# Altium integrated library ON Semi MOSFETs.IntLib: 1097 symbols (part 22 of 26)
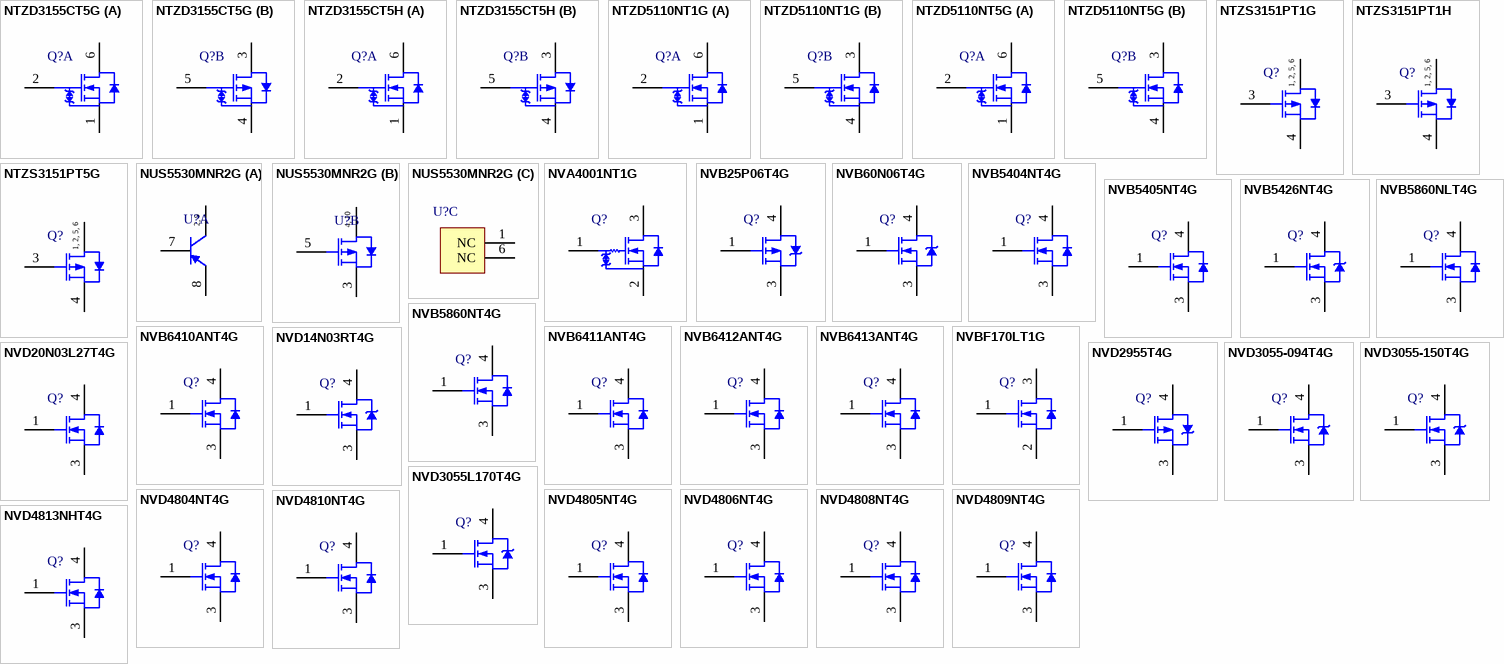
[diagram p52: symbols NTZD3155CT5G to NVD4813NHT4G]

## NVD4809NT4G
designator Q?
Power MOSFET, 30 V, 58 A, Single N-Channel, 3-Pin DPAK, Pb-Free, Tape and Reel; Manufacturer: On Semiconductor; PartNumber: NVD4809NT4G; Channel Polarity: N Channel; Ciss Typ (pF): 1456; Coss Typ (pF): 315; Crss Typ (pF): 200; ID Max (A): 58; Qrr Typ (nC): 9.2; V(BR)DSS Min (V): 30; VGS Max (V): 20; VGS(th) Max (V): 2.5; DatasheetVersion: Rev. 13; PackageVersion: Rev. B, 06/2010; PackageReference: DPAK-3-369AA-01; PackageDescription: 3-Pin Flange Mount, Body 6.54 x 6.095 mm, Pitch 2.29 mm; Configuration: Single; Package Type: DPAK-3, IPAK-3; Packing: Tape and Reel; RoHS: Pb-Free; Mounting Technology: Surface Mount; ComponentLink1Description: Manufacturer URL; ComponentLink1URL: http://www.onsemi.com/; ComponentLink2Description: Datasheet; ComponentLink2URL: http://www.onsemi.cn/pub_link/Collateral/NTD4809N-D.PDF; ComponentLink3Description: Package Specification; ComponentLink3URL: http://www.onsemi.cn/pub_link/Collateral/369AA.PDF
footprint ONSC-DPAK-3-369AA-01_V (DPAK, 3-Leads, Body 6.54x6.095mm, Pitch 2.29mm)
pins: 1 G, 3 S, 4 D

## NVD4810NT4G
designator Q?
Power MOSFET, 30 V, 54 A, Single N-Channel, 3-Pin DPAK, Pb-Free, Tape and Reel; Manufacturer: On Semiconductor; PartNumber: NVD4810NT4G; Channel Polarity: N Channel; Ciss Typ (pF): 1165; Coss Typ (pF): 284; Crss Typ (pF): 154; ID Max (A): 54; Qrr Typ (nC): 8.8; V(BR)DSS Min (V): 30; VGS Max (V): 20; VGS(th) Max (V): 2.5; DatasheetVersion: Rev. 10; PackageVersion: Rev. B, 06/2010; PackageReference: DPAK-3-369AA-01; PackageDescription: 3-Pin Flange Mount, Body 6.54 x 6.095 mm, Pitch 2.29 mm; Configuration: Single; Package Type: DPAK-3; Packing: Tape and Reel; RoHS: Pb-Free; Mounting Technology: Surface Mount; ComponentLink1Description: Manufacturer URL; ComponentLink1URL: http://www.onsemi.com/; ComponentLink2Description: Datasheet; ComponentLink2URL: http://www.onsemi.cn/pub_link/Collateral/NTD4810N-D.PDF; ComponentLink3Description: Package Specification; ComponentLink3URL: http://www.onsemi.cn/pub_link/Collateral/369AA.PDF
footprint ONSC-DPAK-3-369AA-01_V (DPAK, 3-Leads, Body 6.54x6.095mm, Pitch 2.29mm)
pins: 1 G, 3 S, 4 D

## NVD4813NHT4G
designator Q?
Power MOSFET, 30 V, 40 A, Single N-Channel, 3-Pin DPAK, Pb-Free, Tape and Reel; Manufacturer: On Semiconductor; PartNumber: NVD4813NHT4G; Channel Polarity: N Channel; Ciss Typ (pF): 940; Coss Typ (pF): 201; Crss Typ (pF): 115; ID Max (A): 40; Qrr Typ (nC): 7; V(BR)DSS Min (V): 30; VGS Max (V): 20; VGS(th) Max (V): 2.5; DatasheetVersion: Rev. 3; PackageVersion: Rev. B, 06/2010; PackageReference: DPAK-3-369AA-01; PackageDescription: 3-Pin Flange Mount, Body 6.54 x 6.095 mm, Pitch 2.29 mm; Configuration: Single; Package Type: DPAK-3; Packing: Tape and Reel; RoHS: Pb-Free; Mounting Technology: Surface Mount; ComponentLink1Description: Manufacturer URL; ComponentLink1URL: http://www.onsemi.com/; ComponentLink2Description: Datasheet; ComponentLink2URL: http://www.onsemi.cn/pub_link/Collateral/NTD4813NH-D.PDF; ComponentLink3Description: Package Specification; ComponentLink3URL: http://www.onsemi.cn/pub_link/Collateral/369AA.PDF
footprint ONSC-DPAK-3-369AA-01_V (DPAK, 3-Leads, Body 6.54x6.095mm, Pitch 2.29mm)
pins: 1 G, 3 S, 4 D

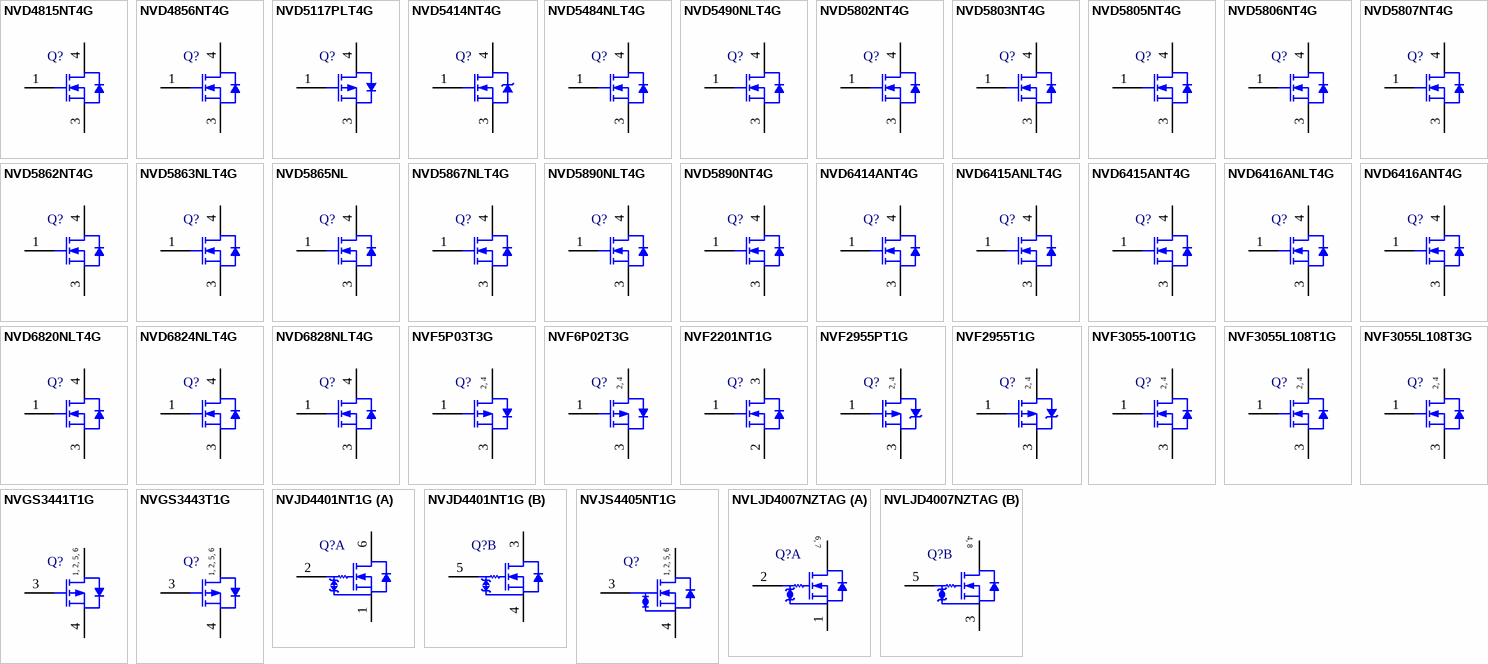
[diagram p26: symbols NVD4815NT4G to NVLJD4007NZTAG]

## NVD4815NT4G
designator Q?
Power MOSFET, 30 V, 35 A, Single N-Channel, 3-Pin DPAK, Pb-Free, Tape and Reel; Manufacturer: On Semiconductor; PartNumber: NVD4815NT4G; Channel Polarity: N Channel; Ciss Typ (pF): 770; Coss Typ (pF): 181; Crss Typ (pF): 108; ID Max (A): 35; Qrr Typ (nC): 5.5; V(BR)DSS Min (V): 30; VGS Max (V): 20; VGS(th) Max (V): 2.5; DatasheetVersion: Rev. 7; PackageVersion: Rev. B, 06/2010; PackageReference: DPAK-3-369AA-01; PackageDescription: 3-Pin Flange Mount, Body 6.54 x 6.095 mm, Pitch 2.29 mm; Configuration: Single; Package Type: DPAK-3, IPAK-3; Packing: Tape and Reel; RoHS: Pb-Free; Mounting Technology: Surface Mount; ComponentLink1Description: Manufacturer URL; ComponentLink1URL: http://www.onsemi.com/; ComponentLink2Description: Datasheet; ComponentLink2URL: http://www.onsemi.cn/pub_link/Collateral/NTD4815N-D.PDF; ComponentLink3Description: Package Specification; ComponentLink3URL: http://www.onsemi.cn/pub_link/Collateral/369AA.PDF
footprint ONSC-DPAK-3-369AA-01_V (DPAK, 3-Leads, Body 6.54x6.095mm, Pitch 2.29mm)
pins: 1 G, 3 S, 4 D

## NVD4856NT4G
designator Q?
Power MOSFET, 25 V, 89 A, Single N-Channel, 3-Pin DPAK, Pb-Free, Tape and Reel; Manufacturer: On Semiconductor; PartNumber: NVD4856NT4G; Channel Polarity: N Channel; Ciss Typ (pF): 2241; Coss Typ (pF): 567; Crss Typ (pF): 279; ID Max (A): 89; Qrr Typ (nC): 8; V(BR)DSS Min (V): 25; VGS Max (V): 20; VGS(th) Max (V): 2.5; DatasheetVersion: Rev. 2; PackageVersion: Rev. B, 06/2010; PackageReference: DPAK-3-369AA-01; PackageDescription: 3-Pin Flange Mount, Body 6.54 x 6.095 mm, Pitch 2.29 mm; Configuration: Single; Package Type: DPAK-3; Packing: Tape and Reel; RoHS: Pb-Free; Mounting Technology: Surface Mount; ComponentLink1Description: Manufacturer URL; ComponentLink1URL: http://www.onsemi.com/; ComponentLink2Description: Datasheet; ComponentLink2URL: http://www.onsemi.cn/pub_link/Collateral/NTD4856N-D.PDF; ComponentLink3Description: Package Specification; ComponentLink3URL: http://www.onsemi.cn/pub_link/Collateral/369AA.PDF
footprint ONSC-DPAK-3-369AA-01_V (DPAK, 3-Leads, Body 6.54x6.095mm, Pitch 2.29mm)
pins: 1 G, 3 S, 4 D

## NVD5117PLT4G
designator Q?
Power MOSFET, -60 V, -61 A, 16 mOhm, Single P-Channel, 3-Pin DPAK, Pb-Free, Tape and Reel; Manufacturer: On Semiconductor; PartNumber: NVD5117PLT4G; Channel Polarity: P Channel; Ciss Typ (pF): 4800; Coss Typ (pF): 480; Crss Typ (pF): 320; ID Max (A): 61; Qrr Typ (nC): 44; V(BR)DSS Min (V): 60; VGS Max (V): 20; VGS(th) Max (V): 2.5; DatasheetVersion: Rev. 0; PackageVersion: Rev. E, 02/2014; PackageReference: DPAK-3-369C-01; PackageDescription: 3-Pin Flange Mount, Body 6.54 x 6.095 mm, Pitch 2.29 mm; Supplier 1: Digi-Key; Supplier Part Number 1: NVD5117PLT4GOSTR-ND; Supplier 2: Digi-Key; Supplier Part Number 2: NVD5117PLT4GOSCT-ND; Supplier 3: Digi-Key; Supplier Part Number 3: NVD5117PLT4GOSDKR-ND; Supplier 4: Farnell; Supplier Part Number 4: 2317595; Supplier 5: Newark; Supplier Part Number 5: 85W3193; Supplier 6: Newark; Supplier Part Number 6: 76T6767; Supplier 7: Mouser; Supplier Part Number 7: 863-NVD5117PLT4G; Configuration: Single; Package Type: DPAK-3; Packing: Tape and Reel; RoHS: Pb-Free; Mounting Technology: Surface Mount; ComponentLink1Description: Manufacturer URL; ComponentLink1URL: http://www.onsemi.com/; ComponentLink2Description: Datasheet; ComponentLink2URL: http://www.onsemi.cn/pub_link/Collateral/NVD5117PL-D.PDF; ComponentLink3Description: Package Specification; ComponentLink3URL: http://www.onsemi.cn/pub_link/Collateral/369C.PDF
footprint ONSC-DPAK-3-369C-01_V (DPAK, 3-Leads, Body 6.54x6.095mm, Pitch 2.29mm)
pins: 1 G, 3 S, 4 D

## NVD5414NT4G
designator Q?
Power MOSFET, 24 A, 60 V Single N-Channel, 3-Pin DPAK, Pb-Free, Tape and Reel; Manufacturer: On Semiconductor; PartNumber: NVD5414NT4G; Channel Polarity: N Channel; Ciss Typ (pF): 800; Coss Typ (pF): 165; Crss Typ (pF): 75; ID Max (A): 24; PD Max (W): 55; Qrr Typ (nC): 76; V(BR)DSS Min (V): 60; VGS(th) Max (V): 4; DatasheetVersion: Rev. 1; PackageVersion: Rev. B, 06/2010; PackageReference: DPAK-3-369AA-01; PackageDescription: 3-Pin Flange Mount, Body 6.54 x 6.095 mm, Pitch 2.29 mm; Configuration: Single; Package Type: DPAK-3; Packing: Tape and Reel; RoHS: Pb-Free; Mounting Technology: Surface Mount; ComponentLink1Description: Manufacturer URL; ComponentLink1URL: http://www.onsemi.com/; ComponentLink2Description: Datasheet; ComponentLink2URL: http://www.onsemi.cn/pub_link/Collateral/NTD5414N-D.PDF; ComponentLink3Description: Package Specification; ComponentLink3URL: http://www.onsemi.cn/pub_link/Collateral/369AA.PDF
footprint ONSC-DPAK-3-369AA-01_V (DPAK, 3-Leads, Body 6.54x6.095mm, Pitch 2.29mm)
pins: 1 G, 3 S, 4 D

## NVD5484NLT4G
designator Q?
Power MOSFET, 60 V, 17 mOhm , 54 A, Single N-Channel Logic Level, 3-Pin DPAK, Pb-Free, Tape and Reel; Manufacturer: On Semiconductor; PartNumber: NVD5484NLT4G; Channel Polarity: N Channel; Ciss Typ (pF): 1410; Coss Typ (pF): 315; Crss Typ (pF): 135; ID Max (A): 54; Qrr Typ (nC): 118; V(BR)DSS Min (V): 60; VGS Max (V): 20; VGS(th) Max (V): 2.5; DatasheetVersion: Rev. 1; PackageVersion: Rev. B, 06/2010; PackageReference: DPAK-3-369AA-01; PackageDescription: 3-Pin Flange Mount, Body 6.54 x 6.095 mm, Pitch 2.29 mm; Supplier 1: Newark; Supplier Part Number 1: 72W2340; Supplier 2: Mouser; Supplier Part Number 2: 863-NVD5484NLT4G; Configuration: Single; Package Type: DPAK-3; Packing: Tape and Reel; RoHS: Pb-Free; Mounting Technology: Surface Mount; ComponentLink1Description: Manufacturer URL; ComponentLink1URL: http://www.onsemi.com/; ComponentLink2Description: Datasheet; ComponentLink2URL: http://www.onsemi.com/pub_link/Collateral/NVD5484NL-D.PDF; ComponentLink3Description: Package Specification; ComponentLink3URL: http://www.onsemi.cn/pub_link/Collateral/369AA.PDF
footprint ONSC-DPAK-3-369AA-01_V (DPAK, 3-Leads, Body 6.54x6.095mm, Pitch 2.29mm)
pins: 1 G, 3 S, 4 D

## NVD5490NLT4G
designator Q?
Power MOSFET, 60 V, 17 A, 64 mOhm, Single N-Channel, 3-Pin DPAK, Pb-Free, Tape and Reel; Manufacturer: On Semiconductor; PartNumber: NVD5490NLT4G; Channel Polarity: N Channel; Ciss Typ (pF): 365; Coss Typ (pF): 91; Crss Typ (pF): 46; ID Max (A): 17; Qrr Typ (nC): 27; V(BR)DSS Min (V): 60; VGS Max (V): 20; VGS(th) Max (V): 2.5; DatasheetVersion: Rev. 1; PackageVersion: Rev. B, 06/2010; PackageReference: DPAK-3-369AA-01; PackageDescription: 3-Pin Flange Mount, Body 6.54 x 6.095 mm, Pitch 2.29 mm; Supplier 1: Newark; Supplier Part Number 1: 72W2341; Supplier 2: Mouser; Supplier Part Number 2: 863-NVD5490NLT4G; Configuration: Single; Package Type: DPAK-3; Packing: Tape and Reel; RoHS: Pb-Free; Mounting Technology: Surface Mount; ComponentLink1Description: Manufacturer URL; ComponentLink1URL: http://www.onsemi.com/; ComponentLink2Description: Datasheet; ComponentLink2URL: http://www.onsemi.cn/pub_link/Collateral/NVD5490NL-D.PDF; ComponentLink3Description: Package Specification; ComponentLink3URL: http://www.onsemi.cn/pub_link/Collateral/369AA.PDF
footprint ONSC-DPAK-3-369AA-01_V (DPAK, 3-Leads, Body 6.54x6.095mm, Pitch 2.29mm)
pins: 1 G, 3 S, 4 D

## NVD5802NT4G
designator Q?
Power MOSFET, 40 V, Single N-Channel, 3-Pin DPAK, Pb-Free, Tape and Reel; Manufacturer: On Semiconductor; PartNumber: NVD5802NT4G; Channel Polarity: N Channel; Qrr Typ (nC): 15; V(BR)DSS Min (V): 40; VGS Max (V): 20; VGS(th) Max (V): 3.5; DatasheetVersion: Rev. 6; PackageVersion: Rev. E, 02/2014; PackageReference: DPAK-3-369C-01; PackageDescription: 3-Pin Flange Mount, Body 6.54 x 6.095 mm, Pitch 2.29 mm; Configuration: Single; Package Type: DPAK-3; Packing: Tape and Reel; RoHS: Pb-Free; Mounting Technology: Surface Mount; ComponentLink1Description: Manufacturer URL; ComponentLink1URL: http://www.onsemi.com/; ComponentLink2Description: Datasheet; ComponentLink2URL: http://www.onsemi.cn/pub_link/Collateral/NTD5802N-D.PDF; ComponentLink3Description: Package Specification; ComponentLink3URL: http://www.onsemi.cn/pub_link/Collateral/369C.PDF
footprint ONSC-DPAK-3-369C-01_V (DPAK, 3-Leads, Body 6.54x6.095mm, Pitch 2.29mm)
pins: 1 G, 3 S, 4 D

## NVD5803NT4G
designator Q?
Power MOSFET, 40 V, 85 A, Single N-Channel, 3-Pin DPAK, Pb-Free, Tape and Reel; Manufacturer: On Semiconductor; PartNumber: NVD5803NT4G; Channel Polarity: N Channel; Ciss Typ (pF): 3220; Coss Typ (pF): 390; Crss Typ (pF): 270; ID Max (A): 85; PD Max (W): 83; Qrr Typ (nC): 17; V(BR)DSS Min (V): 40; VGS Max (V): 20; VGS(th) Max (V): 3.5; DatasheetVersion: Rev. 0; PackageVersion: Rev. B, 06/2010; PackageReference: DPAK-3-369AA-01; PackageDescription: 3-Pin Flange Mount, Body 6.54 x 6.095 mm, Pitch 2.29 mm; Supplier 1: Digi-Key; Supplier Part Number 1: NVD5803NT4G-ND; Supplier 2: Mouser; Supplier Part Number 2: 863-NVD5803NT4G; Configuration: Single; Package Type: DPAK-3; Packing: Tape and Reel; RoHS: Pb-Free; Mounting Technology: Surface Mount; ComponentLink1Description: Manufacturer URL; ComponentLink1URL: http://www.onsemi.com/; ComponentLink2Description: Datasheet; ComponentLink2URL: http://www.onsemi.cn/pub_link/Collateral/NVD5803N-D.PDF; ComponentLink3Description: Package Specification; ComponentLink3URL: http://www.onsemi.cn/pub_link/Collateral/369AA.PDF
footprint ONSC-DPAK-3-369AA-01_V (DPAK, 3-Leads, Body 6.54x6.095mm, Pitch 2.29mm)
pins: 1 G, 3 S, 4 D

## NVD5805NT4G
designator Q?
Power MOSFET, 40 V, 51 A, Single N-Channel, 3-Pin DPAK, Pb-Free, Tape and Reel; Manufacturer: On Semiconductor; PartNumber: NVD5805NT4G; Channel Polarity: N Channel; Ciss Typ (pF): 1725; Coss Typ (pF): 220; Crss Typ (pF): 160; ID Max (A): 51; PD Max (W): 47; Qrr Typ (nC): 15.5; V(BR)DSS Min (V): 40; VGS(th) Max (V): 3.5; DatasheetVersion: Rev. 4; PackageVersion: Rev. E, 02/2014; PackageReference: DPAK-3-369C-01; PackageDescription: 3-Pin Flange Mount, Body 6.54 x 6.095 mm, Pitch 2.29 mm; Configuration: Single; Package Type: DPAK-3; Packing: Tape and Reel; RoHS: Pb-Free; Mounting Technology: Surface Mount; ComponentLink1Description: Manufacturer URL; ComponentLink1URL: http://www.onsemi.com/; ComponentLink2Description: Datasheet; ComponentLink2URL: http://www.onsemi.com/pub_link/Collateral/NTD5805N-D.PDF; ComponentLink3Description: Package Specification; ComponentLink3URL: http://www.onsemi.cn/pub_link/Collateral/369C.PDF
footprint ONSC-DPAK-3-369C-01_V (DPAK, 3-Leads, Body 6.54x6.095mm, Pitch 2.29mm)
pins: 1 G, 3 S, 4 D

## NVD5806NT4G
designator Q?
Power MOSFET, 40 V, 33 A, Single N-Channel, 3-Pin DPAK, Pb-Free, Tape and Reel; Manufacturer: On Semiconductor; PartNumber: NVD5806NT4G; Channel Polarity: N Channel; Ciss Typ (pF): 860; Coss Typ (pF): 130; Crss Typ (pF): 100; ID Max (A): 33; PD Max (W): 40; Qrr Typ (nC): 10.9; VGS(th) Max (V): 2.5; DatasheetVersion: Rev. 5; PackageVersion: Rev. E, 02/2014; PackageReference: DPAK-3-369C-01; PackageDescription: 3-Pin Flange Mount, Body 6.54 x 6.095 mm, Pitch 2.29 mm; Configuration: Single; Package Type: DPAK-3; Packing: Tape and Reel; RoHS: Pb-Free; V(BR)DSS Min (V): 40; Mounting Technology: Surface Mount; ComponentLink1Description: Manufacturer URL; ComponentLink1URL: http://www.onsemi.com/; ComponentLink2Description: Datasheet; ComponentLink2URL: http://www.onsemi.com/pub_link/Collateral/NTD5806N-D.PDF; ComponentLink3Description: Package Specification; ComponentLink3URL: http://www.onsemi.cn/pub_link/Collateral/369C.PDF
footprint ONSC-DPAK-3-369C-01_V (DPAK, 3-Leads, Body 6.54x6.095mm, Pitch 2.29mm)
pins: 1 G, 3 S, 4 D

## NVD5807NT4G
designator Q?
Power MOSFET, 40 V, 23 A, Single N-Channel, 3-Pin DPAK, Pb-Free, Tape and Reel; Manufacturer: On Semiconductor; PartNumber: NVD5807NT4G; Channel Polarity: N Channel; Ciss Typ (pF): 603; Coss Typ (pF): 96; Crss Typ (pF): 73; PD Max (W): 33; Qrr Typ (nC): 6.1; V(BR)DSS Min (V): 40; VGS(th) Max (V): 2.5; DatasheetVersion: Rev. 4; PackageVersion: Rev. B, 06/2010; PackageReference: DPAK-3-369AA-01; PackageDescription: 3-Pin Flange Mount, Body 6.54 x 6.095 mm, Pitch 2.29 mm; Configuration: Single; Package Type: DPAK-3; Packing: Tape and Reel; RoHS: Pb-Free; Mounting Technology: Surface Mount; ComponentLink1Description: Manufacturer URL; ComponentLink1URL: http://www.onsemi.com/; ComponentLink2Description: Datasheet; ComponentLink2URL: http://www.onsemi.com/pub_link/Collateral/NTD5807N-D.PDF; ComponentLink3Description: Package Specification; ComponentLink3URL: http://www.onsemi.cn/pub_link/Collateral/369AA.PDF
footprint ONSC-DPAK-3-369AA-01_V (DPAK, 3-Leads, Body 6.54x6.095mm, Pitch 2.29mm)
pins: 1 G, 3 S, 4 D

## NVD5862NT4G
designator Q?
Power MOSFET, 60 V, 98 A, 5.7 mOhm, Single N-Channel, 3-Pin DPAK, Pb-Free, Tape and Reel; Manufacturer: On Semiconductor; PartNumber: NVD5862NT4G; Channel Polarity: N Channel; Ciss Typ (pF): 5050; Coss Typ (pF): 500; Crss Typ (pF): 300; ID Max (A): 98; Qrr Typ (nC): 40; V(BR)DSS Min (V): 60; VGS Max (V): 20; VGS(th) Max (V): 4; DatasheetVersion: Rev. 0; PackageVersion: Rev. B, 06/2010; PackageReference: DPAK-3-369AA-01; PackageDescription: 3-Pin Flange Mount, Body 6.54 x 6.095 mm, Pitch 2.29 mm; Supplier 1: Digi-Key; Supplier Part Number 1: NVD5862NT4G-ND; Supplier 2: Newark; Supplier Part Number 2: 76T6770; Supplier 3: Mouser; Supplier Part Number 3: 863-NVD5862NT4G; Configuration: Single; Package Type: DPAK-3; Packing: Tape and Reel; RoHS: Pb-Free; Mounting Technology: Surface Mount; ComponentLink1Description: Manufacturer URL; ComponentLink1URL: http://www.onsemi.com/; ComponentLink2Description: Datasheet; ComponentLink2URL: http://www.onsemi.cn/pub_link/Collateral/NVD5862N-D.PDF; ComponentLink3Description: Package Specification; ComponentLink3URL: http://www.onsemi.cn/pub_link/Collateral/369AA.PDF
footprint ONSC-DPAK-3-369AA-01_V (DPAK, 3-Leads, Body 6.54x6.095mm, Pitch 2.29mm)
pins: 1 G, 3 S, 4 D

## NVD5863NLT4G
designator Q?
Power MOSFET, 60 V, 82 A, 7.1 mOhm, Single N-Channel, 3-Pin DPAK, Pb-Free, Tape and Reel; Manufacturer: On Semiconductor; PartNumber: NVD5863NLT4G; Channel Polarity: N Channel; Ciss Typ (pF): 3850; Coss Typ (pF): 350; Crss Typ (pF): 220; ID Max (A): 82; Qrr Typ (nC): 31; V(BR)DSS Min (V): 60; VGS Max (V): 20; VGS(th) Max (V): 3; DatasheetVersion: Rev. 1; PackageVersion: Rev. B, 06/2010; PackageReference: DPAK-3-369AA-01; PackageDescription: 3-Pin Flange Mount, Body 6.54 x 6.095 mm, Pitch 2.29 mm; Supplier 1: Digi-Key; Supplier Part Number 1: NVD5863NLT4G-ND; Supplier 2: Newark; Supplier Part Number 2: 76T6771; Supplier 3: Mouser; Supplier Part Number 3: 863-NVD5863NLT4G; Configuration: Single; Package Type: DPAK-3; Packing: Tape and Reel; RoHS: Pb-Free; Mounting Technology: Surface Mount; ComponentLink1Description: Manufacturer URL; ComponentLink1URL: http://www.onsemi.com/; ComponentLink2Description: Datasheet; ComponentLink2URL: http://www.onsemi.cn/pub_link/Collateral/NVD5863NL-D.PDF; ComponentLink3Description: Package Specification; ComponentLink3URL: http://www.onsemi.cn/pub_link/Collateral/369AA.PDF
footprint ONSC-DPAK-3-369AA-01_V (DPAK, 3-Leads, Body 6.54x6.095mm, Pitch 2.29mm)
pins: 1 G, 3 S, 4 D

## NVD5865NL
designator Q?
Power MOSFET, 60 V, 46 A, 16 mOhm, Single N-Channel, 3-Pin DPAK, Tape and Reel; Manufacturer: On Semiconductor; PartNumber: NVD5865NL; Channel Polarity: N Channel; Ciss Typ (pF): 1400; Coss Typ (pF): 137; Crss Typ (pF): 95; ID Max (A): 46; Qrr Typ (nC): 13; V(BR)DSS Min (V): 60; VGS Max (V): 20; VGS(th) Max (V): 2; DatasheetVersion: Rev. 2; PackageVersion: Rev. B, 06/2010; PackageReference: DPAK-3-369AA-01; PackageDescription: 3-Pin Flange Mount, Body 6.54 x 6.095 mm, Pitch 2.29 mm; Configuration: Single; Package Type: DPAK-3; Packing: Tape and Reel; RoHS: Pb-Free; Mounting Technology: Surface Mount; ComponentLink1Description: Manufacturer URL; ComponentLink1URL: http://www.onsemi.com/; ComponentLink2Description: Datasheet; ComponentLink2URL: http://www.onsemi.cn/pub_link/Collateral/NVD5865NL-D.PDF; ComponentLink3Description: Package Specification; ComponentLink3URL: http://www.onsemi.cn/pub_link/Collateral/369AA.PDF
footprint ONSC-DPAK-3-369AA-01_V (DPAK, 3-Leads, Body 6.54x6.095mm, Pitch 2.29mm)
pins: 1 G, 3 S, 4 D

## NVD5867NLT4G
designator Q?
Power MOSFET, 60 V, 22 A, 39 mOhm, Single N-Channel, 3-Pin DPAK, Pb-Free, Tape and Reel; Manufacturer: On Semiconductor; PartNumber: NVD5867NLT4G; Channel Polarity: N Channel; Ciss Typ (pF): 675; Coss Typ (pF): 68; Crss Typ (pF): 47; ID Max (A): 22; Qrr Typ (nC): 12; V(BR)DSS Min (V): 60; VGS Max (V): 20; VGS(th) Max (V): 2.5; DatasheetVersion: Rev. 0; PackageVersion: Rev. B, 06/2010; PackageReference: DPAK-3-369AA-01; PackageDescription: 3-Pin Flange Mount, Body 6.54 x 6.095 mm, Pitch 2.29 mm; Supplier 1: Digi-Key; Supplier Part Number 1: NVD5867NLT4G-ND; Supplier 2: Newark; Supplier Part Number 2: 76T6773; Supplier 3: Mouser; Supplier Part Number 3: 863-NVD5867NLT4G; Configuration: Single; Package Type: DPAK-3; Packing: Tape and Reel; RoHS: Pb-Free; Mounting Technology: Surface Mount; ComponentLink1Description: Manufacturer URL; ComponentLink1URL: http://www.onsemi.com/; ComponentLink2Description: Datasheet; ComponentLink2URL: http://www.onsemi.cn/pub_link/Collateral/NVD5867N-D.PDF; ComponentLink3Description: Package Specification; ComponentLink3URL: http://www.onsemi.cn/pub_link/Collateral/369AA.PDF
footprint ONSC-DPAK-3-369AA-01_V (DPAK, 3-Leads, Body 6.54x6.095mm, Pitch 2.29mm)
pins: 1 G, 3 S, 4 D

## NVD5890NLT4G
designator Q?
Power MOSFET, 40 V, 123 A, 3.7 mOhm, Single N-Channel, 3-Pin DPAK, Pb-Free, Tape and Reel; Manufacturer: On Semiconductor; PartNumber: NVD5890NLT4G; Channel Polarity: N Channel; Ciss Typ (pF): 4760; Coss Typ (pF): 580; Crss Typ (pF): 385; ID Max (A): 123; Qrr Typ (nC): 34; V(BR)DSS Min (V): 40; VGS Max (V): 20; VGS(th) Max (V): 2.5; DatasheetVersion: Rev. 0; PackageVersion: Rev. E, 02/2014; PackageReference: DPAK-3-369C-01; PackageDescription: 3-Pin Flange Mount, Body 6.54 x 6.095 mm, Pitch 2.29 mm; Supplier 1: Newark; Supplier Part Number 1: 60W1842; Supplier 2: Mouser; Supplier Part Number 2: 863-NVD5890NLT4G; Configuration: Single; Package Type: DPAK-3; Packing: Tape and Reel; RoHS: Pb-Free; Mounting Technology: Surface Mount; ComponentLink1Description: Manufacturer URL; ComponentLink1URL: http://www.onsemi.com/; ComponentLink2Description: Datasheet; ComponentLink2URL: http://www.onsemi.cn/pub_link/Collateral/NVD5890NL-D.PDF; ComponentLink3Description: Package Specification; ComponentLink3URL: http://www.onsemi.cn/pub_link/Collateral/369C.PDF
footprint ONSC-DPAK-3-369C-01_V (DPAK, 3-Leads, Body 6.54x6.095mm, Pitch 2.29mm)
pins: 1 G, 3 S, 4 D

## NVD5890NT4G
designator Q?
Power MOSFET, 40 V, 123 A, Single N-Channel, 3-Pin DPAK, Pb-Free, Tape and Reel; Manufacturer: On Semiconductor; PartNumber: NVD5890NT4G; Channel Polarity: N Channel; ID Max (A): 123; Qrr Typ (nC): 40; VGS Max (V): 20; VGS(th) Max (V): 3.5; DatasheetVersion: Rev. 1; PackageVersion: Rev. E, 02/2014; PackageReference: DPAK-3-369C-01; PackageDescription: 3-Pin Flange Mount, Body 6.54 x 6.095 mm, Pitch 2.29 mm; Supplier 1: Digi-Key; Supplier Part Number 1: NVD5890NT4G-ND; Supplier 2: Mouser; Supplier Part Number 2: 863-NVD5890NT4G; Configuration: Single; Package Type: DPAK-3; Packing: Tape and Reel; RoHS: Pb-Free; V(BR)DSS Min (V): 40; Mounting Technology: Surface Mount; ComponentLink1Description: Manufacturer URL; ComponentLink1URL: http://www.onsemi.com/; ComponentLink2Description: Datasheet; ComponentLink2URL: http://www.onsemi.cn/pub_link/Collateral/NVD5890N-D.PDF; ComponentLink3Description: Package Specification; ComponentLink3URL: http://www.onsemi.cn/pub_link/Collateral/369C.PDF
footprint ONSC-DPAK-3-369C-01_V (DPAK, 3-Leads, Body 6.54x6.095mm, Pitch 2.29mm)
pins: 1 G, 3 S, 4 D

## NVD6414ANT4G
designator Q?
N-Channel Power MOSFET, 100 V, 32 A, 37 mOhm, 3-Pin DPAK, Pb-Free, Tape and Reel; Manufacturer: On Semiconductor; PartNumber: NVD6414ANT4G; Channel Polarity: N Channel; Ciss Typ (pF): 1450; Configuration: Single; Coss Typ (pF): 230; Crss Typ (pF): 95; ID Max (A): 32; PD Max (W): 100; Qrr Typ (nC): 195; VGS Max (V): 20; VGS(th) Max (V): 4; DatasheetVersion: Rev. 1; PackageVersion: Rev. B, 06/2010; PackageReference: DPAK-3-369AA-01; PackageDescription: 3-Pin Flange Mount, Body 6.54 x 6.095 mm, Pitch 2.29 mm; Package Type: DPAK-3; Packing: Tape and Reel; RoHS: Pb-Free; V(BR)DSS Min (V): 100; Mounting Technology: Surface Mount; ComponentLink1Description: Manufacturer URL; ComponentLink1URL: http://www.onsemi.com/; ComponentLink2Description: Datasheet; ComponentLink2URL: http://www.onsemi.cn/pub_link/Collateral/NTD6414AN-D.PDF; ComponentLink3Description: Package Specification; ComponentLink3URL: http://www.onsemi.cn/pub_link/Collateral/369AA.PDF
footprint ONSC-DPAK-3-369AA-01_V (DPAK, 3-Leads, Body 6.54x6.095mm, Pitch 2.29mm)
pins: 1 G, 3 S, 4 D

## NVD6415ANLT4G
designator Q?
N-Channel Power MOSFET, 100 V, 23 A, 56 mOhm, Logic Level, 3-Pin DPAK, Pb-Free, Tape and Reel; Manufacturer: On Semiconductor; PartNumber: NVD6415ANLT4G; Channel Polarity: N Channel; Ciss Typ (pF): 1024; Configuration: Single; Coss Typ (pF): 156; Crss Typ (pF): 70; ID Max (A): 23; PD Max (W): 83; Qrr Typ (nC): 152; VGS Max (V): 20; VGS(th) Max (V): 2; DatasheetVersion: Rev. 1; PackageVersion: Rev. B, 06/2010; PackageReference: DPAK-3-369AA-01; PackageDescription: 3-Pin Flange Mount, Body 6.54 x 6.095 mm, Pitch 2.29 mm; Package Type: DPAK-3; Packing: Tape and Reel; RoHS: Pb-Free; Mounting Technology: Surface Mount; ComponentLink1Description: Manufacturer URL; ComponentLink1URL: http://www.onsemi.com/; ComponentLink2Description: Datasheet; ComponentLink2URL: http://www.onsemi.cn/pub_link/Collateral/NTD6415ANL-D.PDF; ComponentLink3Description: Package Specification; ComponentLink3URL: http://www.onsemi.cn/pub_link/Collateral/369AA.PDF
footprint ONSC-DPAK-3-369AA-01_V (DPAK, 3-Leads, Body 6.54x6.095mm, Pitch 2.29mm)
pins: 1 G, 3 S, 4 D

## NVD6415ANT4G
designator Q?
N-Channel Power MOSFET, 100 V, 23 A, 55 mOhm, 3-Pin DPAK, Pb-Free, Tape and Reel; Manufacturer: On Semiconductor; PartNumber: NVD6415ANT4G; Channel Polarity: N Channel; Ciss Typ (pF): 700; Configuration: Single; Coss Typ (pF): 110; Crss Typ (pF): 52; ID Max (A): 23; PD Max (W): 83; Qrr Typ (nC): 176; V(BR)DSS Min (V): 100; VGS Max (V): 20; VGS(th) Max (V): 4; DatasheetVersion: Rev. 1; PackageVersion: Rev. B, 06/2010; PackageReference: DPAK-3-369AA-01; PackageDescription: 3-Pin Flange Mount, Body 6.54 x 6.095 mm, Pitch 2.29 mm; Package Type: DPAK-3, IPAK-4; Packing: Tape and Reel; RoHS: Pb-Free; Mounting Technology: Surface Mount; ComponentLink1Description: Manufacturer URL; ComponentLink1URL: http://www.onsemi.com/; ComponentLink2Description: Datasheet; ComponentLink2URL: http://www.onsemi.cn/pub_link/Collateral/NTD6415AN-D.PDF; ComponentLink3Description: Package Specification; ComponentLink3URL: http://www.onsemi.cn/pub_link/Collateral/369AA.PDF
footprint ONSC-DPAK-3-369AA-01_V (DPAK, 3-Leads, Body 6.54x6.095mm, Pitch 2.29mm)
pins: 1 G, 3 S, 4 D

## NVD6416ANLT4G
designator Q?
N-Channel Power MOSFET, 100 V, 19 A, 74 mOhm, 3-Pin DPAK, Pb-Free, Tape and Reel; Manufacturer: On Semiconductor; PartNumber: NVD6416ANLT4G; Channel Polarity: N Channel; Ciss Typ (pF): 700; Configuration: Single; Coss Typ (pF): 110; Crss Typ (pF): 50; ID Max (A): 19; PD Max (W): 71; Qrr Typ (nC): 112; V(BR)DSS Min (V): 100; VGS Max (V): 20; VGS(th) Max (V): 2.2; DatasheetVersion: Rev. 4; PackageVersion: Rev. B, 06/2010; PackageReference: DPAK-3-369AA-01; PackageDescription: 3-Pin Flange Mount, Body 6.54 x 6.095 mm, Pitch 2.29 mm; Package Type: DPAK-3, IPAK-4; Packing: Tape and Reel; RoHS: Pb-Free; Mounting Technology: Surface Mount; ComponentLink1Description: Manufacturer URL; ComponentLink1URL: http://www.onsemi.com/; ComponentLink2Description: Datasheet; ComponentLink2URL: http://www.onsemi.cn/pub_link/Collateral/NTD6416ANL-D.PDF; ComponentLink3Description: Package Specification; ComponentLink3URL: http://www.onsemi.cn/pub_link/Collateral/369AA.PDF
footprint ONSC-DPAK-3-369AA-01_V (DPAK, 3-Leads, Body 6.54x6.095mm, Pitch 2.29mm)
pins: 1 G, 3 S, 4 D

## NVD6416ANT4G
designator Q?
N-Channel Power MOSFET, 100 V, 17 A, 81 mOhm, 3-Pin DPAK, Pb-Free, Tape and Reel; Manufacturer: On Semiconductor; PartNumber: NVD6416ANT4G; Channel Polarity: N Channel; Ciss Typ (pF): 620; Configuration: Single; Coss Typ (pF): 110; Crss Typ (pF): 50; ID Max (A): 17; PD Max (W): 71; Qrr Typ (nC): 135; V(BR)DSS Min (V): 100; VGS Max (V): 20; VGS(th) Max (V): 4; DatasheetVersion: Rev. 2; PackageVersion: Rev. B, 06/2010; PackageReference: DPAK-3-369AA-01; PackageDescription: 3-Pin Flange Mount, Body 6.54 x 6.095 mm, Pitch 2.29 mm; Package Type: DPAK-3, IPAK-4; Packing: Tape and Reel; RoHS: Pb-Free; Mounting Technology: Surface Mount; ComponentLink1Description: Manufacturer URL; ComponentLink1URL: http://www.onsemi.com/; ComponentLink2Description: Datasheet; ComponentLink2URL: http://www.onsemi.cn/pub_link/Collateral/NTD6416AN-D.PDF; ComponentLink3Description: Package Specification; ComponentLink3URL: http://www.onsemi.cn/pub_link/Collateral/369AA.PDF
footprint ONSC-DPAK-3-369AA-01_V (DPAK, 3-Leads, Body 6.54x6.095mm, Pitch 2.29mm)
pins: 1 G, 3 S, 4 D

## NVD6820NLT4G
designator Q?
Power MOSFET, 90 V, 50 A, 17 mOhm, Single N-Channel, 3-Pin DPAK, Pb-Free, Tape and Reel; Manufacturer: On Semiconductor; PartNumber: NVD6820NLT4G; Channel Polarity: N Channel; Ciss Typ (pF): 4209; Coss Typ (pF): 253; Crss Typ (pF): 187; ID Max (A): 50; Qrr Typ (nC): 55; V(BR)DSS Min (V): 90; VGS Max (V): 20; VGS(th) Max (V): 2.5; DatasheetVersion: Rev. 1; PackageVersion: Rev. E, 02/2014; PackageReference: DPAK-3-369C-01; PackageDescription: 3-Pin Flange Mount, Body 6.54 x 6.095 mm, Pitch 2.29 mm; Supplier 1: Newark; Supplier Part Number 1: 60W1843; Supplier 2: Mouser; Supplier Part Number 2: 863-NVD6820NLT4G; Configuration: Single; Package Type: DPAK-3; Packing: Tape and Reel; RoHS: Pb-Free; Mounting Technology: Surface Mount; ComponentLink1Description: Manufacturer URL; ComponentLink1URL: http://www.onsemi.com/; ComponentLink2Description: Datasheet; ComponentLink2URL: http://www.onsemi.cn/pub_link/Collateral/NVD6820NL-D.PDF; ComponentLink3Description: Package Specification; ComponentLink3URL: http://www.onsemi.cn/pub_link/Collateral/369C.PDF
footprint ONSC-DPAK-3-369C-01_V (DPAK, 3-Leads, Body 6.54x6.095mm, Pitch 2.29mm)
pins: 1 G, 3 S, 4 D

## NVD6824NLT4G
designator Q?
Power MOSFET, 100 V, 41 A, 20 mOhm, Single N-Channel, 3-Pin DPAK, Pb-Free, Tape and Reel; Manufacturer: On Semiconductor; PartNumber: NVD6824NLT4G; Channel Polarity: N Channel; Ciss Typ (pF): 3468; Coss Typ (pF): 187; Crss Typ (pF): 133; ID Max (A): 41; Qrr Typ (nC): 59; V(BR)DSS Min (V): 100; VGS Max (V): 20; VGS(th) Max (V): 2.5; DatasheetVersion: Rev. 1; PackageVersion: Rev. E, 02/2014; PackageReference: DPAK-3-369C-01; PackageDescription: 3-Pin Flange Mount, Body 6.54 x 6.095 mm, Pitch 2.29 mm; Supplier 1: Newark; Supplier Part Number 1: 60W1844; Supplier 2: Mouser; Supplier Part Number 2: 863-NVD6824NLT4G; Configuration: Single; Package Type: DPAK-3; Packing: Tape and Reel; RoHS: Pb-Free; Mounting Technology: Surface Mount; ComponentLink1Description: Manufacturer URL; ComponentLink1URL: http://www.onsemi.com/; ComponentLink2Description: Datasheet; ComponentLink2URL: http://www.onsemi.cn/pub_link/Collateral/NVD6824NL-D.PDF; ComponentLink3Description: Package Specification; ComponentLink3URL: http://www.onsemi.cn/pub_link/Collateral/369C.PDF
footprint ONSC-DPAK-3-369C-01_V (DPAK, 3-Leads, Body 6.54x6.095mm, Pitch 2.29mm)
pins: 1 G, 3 S, 4 D

## NVD6828NLT4G
designator Q?
Power MOSFET, 90 V, 41 A, 20 mOhm, Single N-Channel, 3-Pin DPAK, Pb-Free, Tape and Reel; Manufacturer: On Semiconductor; PartNumber: NVD6828NLT4G; Channel Polarity: N Channel; Ciss Typ (pF): 2900; Coss Typ (pF): 175; Crss Typ (pF): 126; ID Max (A): 41; Qrr Typ (nC): 49; V(BR)DSS Min (V): 90; VGS Max (V): 20; VGS(th) Max (V): 2.5; DatasheetVersion: Rev. 1; PackageVersion: Rev. E, 02/2014; PackageReference: DPAK-3-369C-01; PackageDescription: 3-Pin Flange Mount, Body 6.54 x 6.095 mm, Pitch 2.29 mm; Supplier 1: Newark; Supplier Part Number 1: 60W1845; Supplier 2: Mouser; Supplier Part Number 2: 863-NVD6828NLT4G; Configuration: Single; Package Type: DPAK-3; Packing: Tape and Reel; RoHS: Pb-Free; Mounting Technology: Surface Mount; ComponentLink1Description: Manufacturer URL; ComponentLink1URL: http://www.onsemi.com/; ComponentLink2Description: Datasheet; ComponentLink2URL: http://www.onsemi.cn/pub_link/Collateral/NVD6828NL-D.PDF; ComponentLink3Description: Package Specification; ComponentLink3URL: http://www.onsemi.cn/pub_link/Collateral/369C.PDF
footprint ONSC-DPAK-3-369C-01_V (DPAK, 3-Leads, Body 6.54x6.095mm, Pitch 2.29mm)
pins: 1 G, 3 S, 4 D

## NVF5P03T3G
designator Q?
Power MOSFET, -5.2 A, -30 V, P-Channel, 4-Pin SOT-223, Pb-Free, Tape and Reel; Manufacturer: On Semiconductor; PartNumber: NVF5P03T3G; Channel Polarity: P Channel; Ciss Typ (pF): 500; Configuration: Single; Coss Typ (pF): 153; Crss Typ (pF): 58; Qrr Typ (nC): 36; V(BR)DSS Min (V): 30; VGS Max (V): 20; VGS(th) Max (V): 3; DatasheetVersion: Rev. 6; PackageVersion: Rev. N, 08/2009; PackageReference: SOT-223-4-318E-04; PackageDescription: 4-Pin Small Outline Transistor, Body 6.5 x 3.5 mm, Pitch 2.3 mm; Package Type: SOT-223-4 / TO-261-4; Packing: Tape and Reel; RoHS: Pb-Free; Mounting Technology: Surface Mount; ComponentLink1Description: Manufacturer URL; ComponentLink1URL: http://www.onsemi.com/; ComponentLink2Description: Datasheet; ComponentLink2URL: http://www.onsemi.com/pub_link/Collateral/NTF5P03T3-D.PDF; ComponentLink3Description: Package Specification; ComponentLink3URL: http://www.onsemi.com/pub_link/Collateral/318E-04.PDF
footprint ONSC-SOT-223-4-318E-04_V (SOT223, 4-Leads, Body 6.5x3.5mm, Pitch 2.3mm)
pins: 1 G, 2 D, 3 S, 4 D
text: 2, 4

## NVF6P02T3G
designator Q?
Power MOSFET, -10 A, -20 V, P-Channel, 4-Pin SOT-223, Pb-Free, Tape and Reel; Manufacturer: On Semiconductor; PartNumber: NVF6P02T3G; Channel Polarity: P Channel; Configuration: Single; PD Max (W): 8.3; Qrr Typ (nC): 36; V(BR)DSS Min (V): 20; VGS Max (V): 8; VGS(th) Max (V): 1; DatasheetVersion: Rev. 6; PackageVersion: Rev. N, 08/2009; PackageReference: SOT-223-4-318E-04; PackageDescription: 4-Pin Small Outline Transistor, Body 6.5 x 3.5 mm, Pitch 2.3 mm; Package Type: SOT-223-4 / TO-261-4; Packing: Tape and Reel; RoHS: Pb-Free; Mounting Technology: Surface Mount; ComponentLink1Description: Manufacturer URL; ComponentLink1URL: http://www.onsemi.com/; ComponentLink2Description: Datasheet; ComponentLink2URL: http://www.onsemi.com/pub_link/Collateral/NTF6P02T3-D.PDF; ComponentLink3Description: Package Specification; ComponentLink3URL: http://www.onsemi.com/pub_link/Collateral/318E-04.PDF
footprint ONSC-SOT-223-4-318E-04_V (SOT223, 4-Leads, Body 6.5x3.5mm, Pitch 2.3mm)
pins: 1 G, 2 D, 3 S, 4 D
text: 2, 4

## NVF2201NT1G
designator Q?
Power MOSFET, 300 mA, 20 V, N-Channel, 3-Pin SOT-323, Pb-Free, Tape and Reel; Manufacturer: On Semiconductor; PartNumber: NVF2201NT1G; Channel Polarity: N Channel; Ciss Typ (pF): 45; Configuration: Single; Coss Typ (pF): 25; Crss Typ (pF): 5; PD Max (W): 0.15; V(BR)DSS Min (V): 20; VGS(th) Max (V): 2.4; DatasheetVersion: Rev. 7; PackageVersion: Rev. N, 11/2008; PackageReference: SOT-323-3-419-04; PackageDescription: 3-Pin Small Outline Transistor, Body 2 x 1.25 mm, Pitch 0.65 mm; Package Type: SC-70-3 / SOT-323-3; Packing: Tape and Reel; RoHS: Pb-Free; VGS Max (V): 20; Mounting Technology: Surface Mount; ComponentLink1Description: Manufacturer URL; ComponentLink1URL: http://www.onsemi.com/; ComponentLink2Description: Datasheet; ComponentLink2URL: http://www.onsemi.cn/pub_link/Collateral/MMBF2201NT1-D.PDF; ComponentLink3Description: Package Specification; ComponentLink3URL: http://www.onsemi.com/pub_link/Collateral/419-04.PDF
footprint ONSC-SOT-323-3-419-04_V (SOT23, 3-Leads, Body 2x1.25mm, Pitch 0.65mm)
pins: 1 G, 2 S, 3 D

## NVF2955PT1G
designator Q?
Power MOSFET, -60 V, -2.6 A, Single P-Channel, 4-Pin SOT-223, Pb-Free, Tape and Reel; Manufacturer: On Semiconductor; PartNumber: NVF2955PT1G; Channel Polarity: P Channel; Ciss Typ (pF): 492; Coss Typ (pF): 165; Crss Typ (pF): 50; ID Max (A): 2.6; Qrr Typ (nC): 0.139; V(BR)DSS Min (V): 60; VGS Max (V): 20; VGS(th) Max (V): 4; DatasheetVersion: Rev. 6; PackageVersion: Rev. N, 08/2009; PackageReference: SOT-223-4-318E-04; PackageDescription: 4-Pin Small Outline Transistor, Body 6.5 x 3.5 mm, Pitch 2.3 mm; Configuration: Single; Package Type: SOT-223-4 / TO-261-4; Packing: Tape and Reel; RoHS: Pb-Free; Mounting Technology: Surface Mount; ComponentLink1Description: Manufacturer URL; ComponentLink1URL: http://www.onsemi.com/; ComponentLink2Description: Datasheet; ComponentLink2URL: http://www.onsemi.com/pub_link/Collateral/NTF2955-D.PDF; ComponentLink3Description: Package Specification; ComponentLink3URL: http://www.onsemi.com/pub_link/Collateral/318E-04.PDF
footprint ONSC-SOT-223-4-318E-04_V (SOT223, 4-Leads, Body 6.5x3.5mm, Pitch 2.3mm)
pins: 1 G, 2 D, 3 S, 4 D
text: 2, 4

## NVF2955T1G
designator Q?
Power MOSFET, -60 V, -2.6 A, Single P-Channel, 4-Pin SOT-223, Pb-Free, Tape and Reel; Manufacturer: On Semiconductor; PartNumber: NVF2955T1G; Channel Polarity: P Channel; Ciss Typ (pF): 492; Coss Typ (pF): 165; Crss Typ (pF): 50; ID Max (A): 2.6; Qrr Typ (nC): 0.139; V(BR)DSS Min (V): 60; VGS Max (V): 20; VGS(th) Max (V): 4; DatasheetVersion: Rev. 6; PackageVersion: Rev. N, 08/2009; PackageReference: SOT-223-4-318E-04; PackageDescription: 4-Pin Small Outline Transistor, Body 6.5 x 3.5 mm, Pitch 2.3 mm; Configuration: Single; Package Type: SOT-223-4 / TO-261-4; Packing: Tape and Reel; RoHS: Pb-Free; Mounting Technology: Surface Mount; ComponentLink1Description: Manufacturer URL; ComponentLink1URL: http://www.onsemi.com/; ComponentLink2Description: Datasheet; ComponentLink2URL: http://www.onsemi.com/pub_link/Collateral/NTF2955-D.PDF; ComponentLink3Description: Package Specification; ComponentLink3URL: http://www.onsemi.com/pub_link/Collateral/318E-04.PDF
footprint ONSC-SOT-223-4-318E-04_V (SOT223, 4-Leads, Body 6.5x3.5mm, Pitch 2.3mm)
pins: 1 G, 2 D, 3 S, 4 D
text: 2, 4

## NVF3055-100T1G
designator Q?
Power MOSFET, 3 A, 60 V, N-Channel, 4-Pin SOT-223, Pb-Free, Tape and Reel; Manufacturer: On Semiconductor; PartNumber: NVF3055-100T1G; Channel Polarity: N Channel; Ciss Typ (pF): 324; Configuration: Single; Coss Typ (pF): 35; Crss Typ (pF): 110; Qrr Typ (nC): 40; V(BR)DSS Min (V): 60; DatasheetVersion: Rev. 4; PackageVersion: Rev. N, 08/2009; PackageReference: SOT-223-4-318E-04; PackageDescription: 4-Pin Small Outline Transistor, Body 6.5 x 3.5 mm, Pitch 2.3 mm; Package Type: SOT-223-4 / TO-261-4; Packing: Tape and Reel; RoHS: Pb-Free; Mounting Technology: Surface Mount; ComponentLink1Description: Manufacturer URL; ComponentLink1URL: http://www.onsemi.com/; ComponentLink2Description: Datasheet; ComponentLink2URL: http://www.onsemi.com/pub_link/Collateral/NTF3055-100-D.PDF; ComponentLink3Description: Package Specification; ComponentLink3URL: http://www.onsemi.com/pub_link/Collateral/318E-04.PDF
footprint ONSC-SOT-223-4-318E-04_V (SOT223, 4-Leads, Body 6.5x3.5mm, Pitch 2.3mm)
pins: 1 G, 2 D, 3 S, 4 D
text: 2, 4

## NVF3055L108T1G
designator Q?
Power MOSFET, 3 A, 60 V, Logic Level, N-Channel, 4-Pin SOT-223, Pb-Free, Tape and Reel; Manufacturer: On Semiconductor; PartNumber: NVF3055L108T1G; Channel Polarity: N Channel; Ciss Typ (pF): 313; Configuration: Single; Coss Typ (pF): 112; Crss Typ (pF): 40; Qrr Typ (nC): 44; V(BR)DSS Min (V): 60; VGS(th) Max (V): 2; DatasheetVersion: Rev. 6; PackageVersion: Rev. N, 08/2009; PackageReference: SOT-223-4-318E-04; PackageDescription: 4-Pin Small Outline Transistor, Body 6.5 x 3.5 mm, Pitch 2.3 mm; Package Type: SOT-223-4 / TO-261-4; Packing: Tape and Reel; RoHS: Pb-Free; Mounting Technology: Surface Mount; ComponentLink1Description: Manufacturer URL; ComponentLink1URL: http://www.onsemi.com/; ComponentLink2Description: Datasheet; ComponentLink2URL: http://www.onsemi.com/pub_link/Collateral/NTF3055L108-D.PDF; ComponentLink3Description: Package Specification; ComponentLink3URL: http://www.onsemi.com/pub_link/Collateral/318E-04.PDF
footprint ONSC-SOT-223-4-318E-04_V (SOT223, 4-Leads, Body 6.5x3.5mm, Pitch 2.3mm)
pins: 1 G, 2 D, 3 S, 4 D
text: 2, 4

## NVF3055L108T3G
designator Q?
Power MOSFET, 3 A, 60 V, Logic Level, N-Channel, 4-Pin SOT-223, Pb-Free, Tape and Reel; Manufacturer: On Semiconductor; PartNumber: NVF3055L108T3G; Channel Polarity: N Channel; Ciss Typ (pF): 313; Configuration: Single; Coss Typ (pF): 112; Crss Typ (pF): 40; Qrr Typ (nC): 44; V(BR)DSS Min (V): 60; VGS(th) Max (V): 2; DatasheetVersion: Rev. 6; PackageVersion: Rev. N, 08/2009; PackageReference: SOT-223-4-318E-04; PackageDescription: 4-Pin Small Outline Transistor, Body 6.5 x 3.5 mm, Pitch 2.3 mm; Package Type: SOT-223-4 / TO-261-4; Packing: Tape and Reel; RoHS: Pb-Free; Mounting Technology: Surface Mount; ComponentLink1Description: Manufacturer URL; ComponentLink1URL: http://www.onsemi.com/; ComponentLink2Description: Datasheet; ComponentLink2URL: http://www.onsemi.com/pub_link/Collateral/NTF3055L108-D.PDF; ComponentLink3Description: Package Specification; ComponentLink3URL: http://www.onsemi.com/pub_link/Collateral/318E-04.PDF
footprint ONSC-SOT-223-4-318E-04_V (SOT223, 4-Leads, Body 6.5x3.5mm, Pitch 2.3mm)
pins: 1 G, 2 D, 3 S, 4 D
text: 2, 4

## NVGS3441T1G
designator Q?
Power MOSFET, 1 A, 20 V, P-Channel, 6-Pin TSOP, Pb-Free, Tape and Reel; Manufacturer: On Semiconductor; PartNumber: NVGS3441T1G; Channel Polarity: P Channel; Ciss Typ (pF): 480; Configuration: Single; Coss Typ (pF): 265; Crss Typ (pF): 100; V(BR)DSS Min (V): 20; VGS Max (V): 8; VGS(th) Max (V): 1.5; DatasheetVersion: Rev. 6; PackageVersion: Rev. V, 06/2012; PackageReference: TSOP-6-318G-02; PackageDescription: 6-Pin Small Outline Package, Body 3 x 1.5 mm, Pitch 0.95 mm; Package Type: TSOP-6; Packing: Tape and Reel; RoHS: Pb-Free; Mounting Technology: Surface Mount; ComponentLink1Description: Manufacturer URL; ComponentLink1URL: http://www.onsemi.com/; ComponentLink2Description: Datasheet; ComponentLink2URL: http://www.onsemi.com/pub_link/Collateral/NTGS3441T1-D.PDF; ComponentLink3Description: Package Specification; ComponentLink3URL: http://www.onsemi.com/pub_link/Collateral/318G-02.PDF
footprint ONSC-TSOP-6-318G-02_V (SOP, 6-Leads, Body 3x1.5mm, Pitch 0.95mm)
pins: 1 D, 2 D, 3 G, 4 S, 5 D, 6 D
text: 1, 2, 5, 6

## NVGS3443T1G
designator Q?
Power MOSFET, 4.4 A, 20 V, P-Channel, 6-Pin TSOP, Pb-Free, Tape and Reel; Manufacturer: On Semiconductor; PartNumber: NVGS3443T1G; Channel Polarity: P Channel; Ciss Typ (pF): 565; Configuration: Single; Coss Typ (pF): 320; Crss Typ (pF): 120; V(BR)DSS Min (V): 20; VGS Max (V): 12; VGS(th) Max (V): 1.5; DatasheetVersion: Rev. 5; PackageVersion: Rev. V, 06/2012; PackageReference: TSOP-6-318G-02; PackageDescription: 6-Pin Small Outline Package, Body 3 x 1.5 mm, Pitch 0.95 mm; Package Type: TSOP-6; Packing: Tape and Reel; RoHS: Pb-Free; Mounting Technology: Surface Mount; ComponentLink1Description: Manufacturer URL; ComponentLink1URL: http://www.onsemi.com/; ComponentLink2Description: Datasheet; ComponentLink2URL: http://www.onsemi.com/pub_link/Collateral/NTGS3443T1-D.PDF; ComponentLink3Description: Package Specification; ComponentLink3URL: http://www.onsemi.com/pub_link/Collateral/318G-02.PDF
footprint ONSC-TSOP-6-318G-02_V (SOP, 6-Leads, Body 3x1.5mm, Pitch 0.95mm)
pins: 1 D, 2 D, 3 G, 4 S, 5 D, 6 D
text: 1, 2, 5, 6

## NVJD4401NT1G
designator Q?
Small Signal MOSFET, 20 V, Dual N-Channel, ESD Protection, 6-Pin SC70, Pb-Free, Tape and Reel; Manufacturer: On Semiconductor; PartNumber: NVJD4401NT1G; Channel Polarity: N Channel; Ciss Typ (pF): 33; Coss Typ (pF): 13; Crss Typ (pF): 2.8; ID Max (A): 0.63; V(BR)DSS Min (V): 20; VGS Max (V): 12; VGS(th) Max (V): 1.5; DatasheetVersion: Rev. 6; PackageVersion: Rev. W; PackageReference: SC70-6-419B-02_W; PackageDescription: 6-Pin Small Outline Transistor, Body 2 x 1.25 mm, Pitch 0.65 mm; Configuration: Dual; Package Type: SC-88-6 / SC-70-6 / SOT-363-6; Packing: Tape and Reel; RoHS: Pb-Free; Mounting Technology: Surface Mount; ComponentLink1Description: Manufacturer URL; ComponentLink1URL: http://www.onsemi.com/; ComponentLink2Description: Datasheet; ComponentLink2URL: http://www.onsemi.com/pub_link/Collateral/NTJD4401N-D.PDF; ComponentLink3Description: Package Specification; ComponentLink3URL: http://www.onsemi.com/pub_link/Collateral/SMF05C-D.PDF
footprint ONSC-SC70-6-419B-02_W_V (SOT23, 6-Leads, Body 2x1.25mm, Pitch 0.65mm)
part A pins: 1 S1, 2 G1, 6 D1
part B pins: 3 D2, 4 S2, 5 G2

## NVJS4405NT1G
designator Q?
Small Signal MOSFET, 25 V, 1.2 A, Single, N-Channel, 6-Pin SC70, Pb-Free, Tape and Reel; Manufacturer: On Semiconductor; PartNumber: NVJS4405NT1G; Channel Polarity: N Channel; Ciss Typ (pF): 49; Coss Typ (pF): 22.4; Crss Typ (pF): 8; ID Max (A): 1.2; V(BR)DSS Min (V): 25; VGS(th) Max (V): 1.5; DatasheetVersion: Rev. 6; PackageVersion: Rev. W; PackageReference: SC70-6-419B-02_W; PackageDescription: 6-Pin Small Outline Transistor, Body 2 x 1.25 mm, Pitch 0.65 mm; Configuration: Single; Package Type: SC-88-6 / SC-70-6 / SOT-363-6; Packing: Tape and Reel; RoHS: Pb-Free; VGS Max (V): 8; Mounting Technology: Surface Mount; ComponentLink1Description: Manufacturer URL; ComponentLink1URL: http://www.onsemi.com/; ComponentLink2Description: Datasheet; ComponentLink2URL: http://www.onsemi.com/pub_link/Collateral/NTJS4405N-D.PDF; ComponentLink3Description: Package Specification; ComponentLink3URL: http://www.onsemi.com/pub_link/Collateral/SMF05C-D.PDF
footprint ONSC-SC70-6-419B-02_W_V (SOT23, 6-Leads, Body 2x1.25mm, Pitch 0.65mm)
pins: 1 D, 2 D, 3 G, 4 S, 5 D, 6 D
text: 1, 2, 5, 6

## NVLJD4007NZTAG
designator Q?
Small Signal MOSFET, 30 V, 245 mA, Dual, N-Channel, Gate ESD Protection, 6-Pin WDFN, Pb-Free, Tape and Reel; Manufacturer: On Semiconductor; PartNumber: NVLJD4007NZTAG; Channel Polarity: N Channel; Ciss Typ (pF): 12.2; Coss Typ (pF): 10; Crss Typ (pF): 3.3; ID Max (A): 0.245; PD Max (W): 0.755; V(BR)DSS Min (V): 30; VGS(th) Max (V): 1.5; DatasheetVersion: Rev. F; PackageVersion: Rev. F, 09/2012; PackageReference: WDFN-6-506AN_F; PackageDescription: 6-Pin Small Outline No-Lead, Body 2 x 2 mm, Pitch 0.65 mm; Supplier 1: Newark; Supplier Part Number 1: 97W6401; Supplier 2: Mouser; Supplier Part Number 2: 863-NVLJD4007NZTAG; Configuration: Dual; Package Type: WDFN-6; Packing: Tape and Reel; RoHS: Pb-Free; VGS Max (V): 10; Mounting Technology: Surface Mount; ComponentLink1Description: Manufacturer URL; ComponentLink1URL: http://www.onsemi.com/; ComponentLink2Description: Datasheet; ComponentLink2URL: http://www.onsemi.com/pub_link/Collateral/NVLJD4007NZ-D.PDF; ComponentLink3Description: Package Specification; ComponentLink3URL: http://www.onsemi.com/pub_link/Collateral/NVLJD4007NZ-D.PDF
footprint ONSC-WDFN-6-506AN_F_V (WDFN, 6-Leads, Body 2x2mm, Pitch 0.65mm)
part A pins: 1 S1, 2 G1, 6 D1, 7 D1
part B pins: 3 S2, 4 D2, 5 G2, 8 D2
part A text: 6, 7
part B text: 4, 8

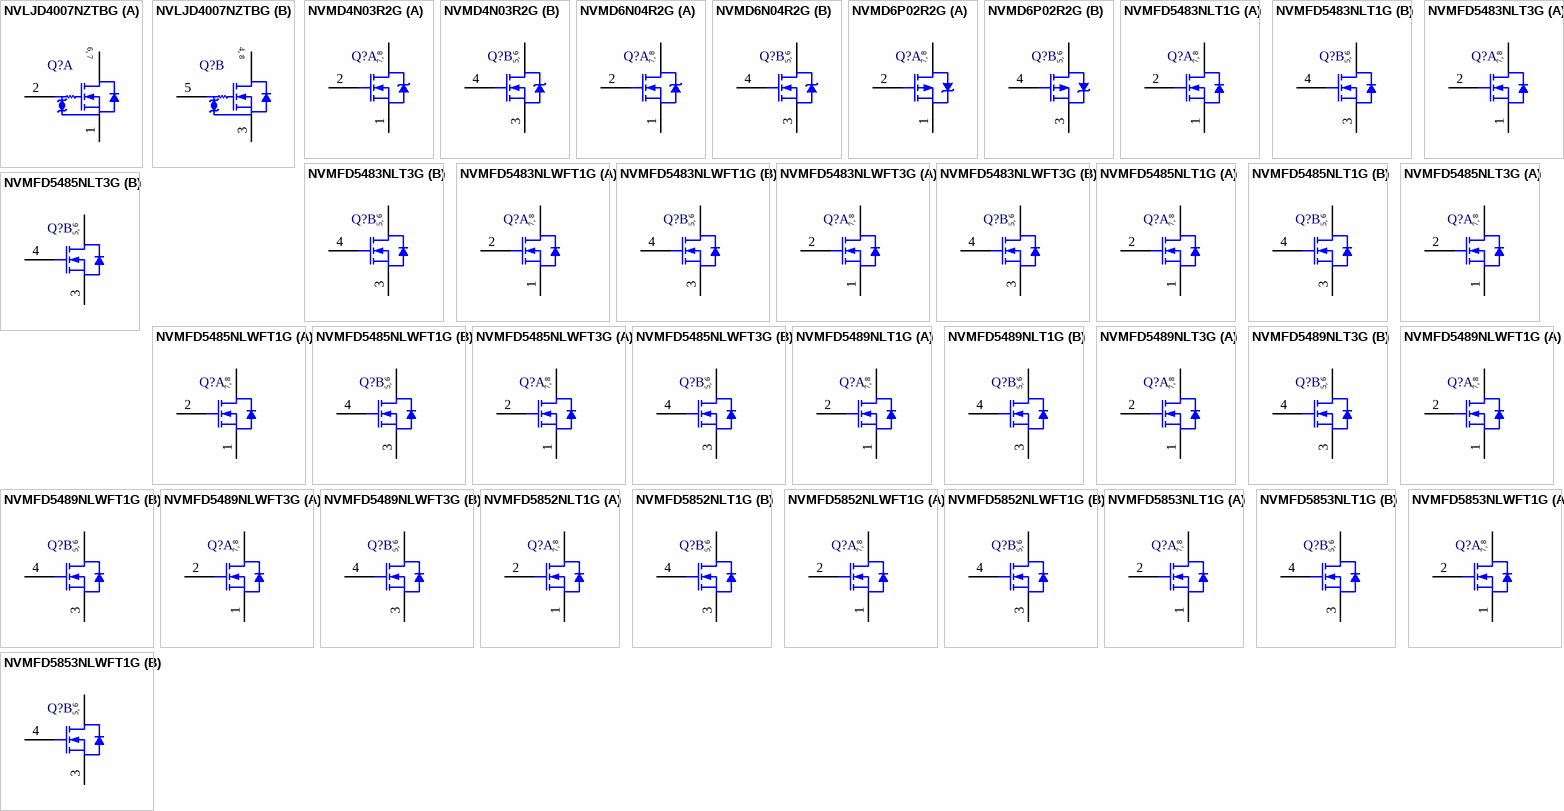
[diagram p27: symbols NVLJD4007NZTBG to NVMFD5853NLWFT1G]

## NVLJD4007NZTBG
designator Q?
Small Signal MOSFET, 30 V, 245 mA, Dual, N-Channel, Gate ESD Protection, 6-Pin WDFN, Pb-Free, Tape and Reel; Manufacturer: On Semiconductor; PartNumber: NVLJD4007NZTBG; Channel Polarity: N Channel; Ciss Typ (pF): 12.2; Coss Typ (pF): 10; Crss Typ (pF): 3.3; ID Max (A): 0.245; PD Max (W): 0.755; V(BR)DSS Min (V): 30; VGS(th) Max (V): 1.5; DatasheetVersion: Rev. F; PackageVersion: Rev. F, 09/2012; PackageReference: WDFN-6-506AN_F; PackageDescription: 6-Pin Small Outline No-Lead, Body 2 x 2 mm, Pitch 0.65 mm; Supplier 1: Newark; Supplier Part Number 1: 97W6402; Supplier 2: Mouser; Supplier Part Number 2: 863-NVLJD4007NZTBG; Configuration: Dual; Package Type: WDFN-6; Packing: Tape and Reel; RoHS: Pb-Free; VGS Max (V): 10; Mounting Technology: Surface Mount; ComponentLink1Description: Manufacturer URL; ComponentLink1URL: http://www.onsemi.com/; ComponentLink2Description: Datasheet; ComponentLink2URL: http://www.onsemi.com/pub_link/Collateral/NVLJD4007NZ-D.PDF; ComponentLink3Description: Package Specification; ComponentLink3URL: http://www.onsemi.com/pub_link/Collateral/NVLJD4007NZ-D.PDF
footprint ONSC-WDFN-6-506AN_F_V (WDFN, 6-Leads, Body 2x2mm, Pitch 0.65mm)
part A pins: 1 S1, 2 G1, 6 D1, 7 D1
part B pins: 3 S2, 4 D2, 5 G2, 8 D2
part A text: 6, 7
part B text: 4, 8

## NVMD4N03R2G
designator Q?
Power MOSFET, 4 A, 30 V, N-Channel, 8-Pin SOIC, Pb-Free, Tape and Reel; Manufacturer: On Semiconductor; PartNumber: NVMD4N03R2G; Channel Polarity: N Channel; Ciss Typ (pF): 285; Configuration: Dual; Coss Typ (pF): 95; Crss Typ (pF): 35; ID Max (A): 4; PD Max (W): 2; Qrr Typ (nC): 8; V(BR)DSS Min (V): 30; VGS Max (V): 20; VGS(th) Max (V): 3; DatasheetVersion: Rev. 4; PackageVersion: Rev. AK, 02/2011; PackageReference: SOIC-8-751-07; PackageDescription: 8-Pin Small Outline Integrated Circuit, Body 4.9 x 3.9 mm, Pitch 1.27 mm; Package Type: SOIC-8; Packing: Tape and Reel; RoHS: Pb-Free; Mounting Technology: Surface Mount; ComponentLink1Description: Manufacturer URL; ComponentLink1URL: http://www.onsemi.com/; ComponentLink2Description: Datasheet; ComponentLink2URL: http://www.onsemi.com/pub_link/Collateral/NTMD4N03R2-D.PDF; ComponentLink3Description: Package Specification; ComponentLink3URL: http://www.onsemi.com/pub_link/Collateral/751-07.PDF
footprint ONSC-SOIC-8-751-07_V (SOIC, 8-Leads, Body 4.9x3.9mm, Pitch 1.27mm)
part A pins: 1 S1, 2 G1, 7 D1, 8 D1
part B pins: 3 S2, 4 G2, 5 D2, 6 D2
part A text: 7, 8
part B text: 5, 6

## NVMD6N04R2G
designator Q?
Power MOSFET, 40 V, 5.8 A, Dual N-Channel, 8-Pin SOIC, Pb-Free, Tape and Reel; Manufacturer: On Semiconductor; PartNumber: NVMD6N04R2G; Channel Polarity: N Channel; Ciss Typ (pF): 723; Coss Typ (pF): 156; Crss Typ (pF): 53; ID Max (A): 5.8; Qrr Typ (nC): 20; V(BR)DSS Min (V): 40; VGS(th) Max (V): 3; DatasheetVersion: Rev. 2; PackageVersion: Rev. AK, 02/2011; PackageReference: SOIC-8-751-07; PackageDescription: 8-Pin Small Outline Integrated Circuit, Body 4.9 x 3.9 mm, Pitch 1.27 mm; Configuration: Dual; Package Type: SOIC-8; Packing: Tape and Reel; RoHS: Pb-Free; VGS Max (V): 20; Mounting Technology: Surface Mount; ComponentLink1Description: Manufacturer URL; ComponentLink1URL: http://www.onsemi.com/; ComponentLink2Description: Datasheet; ComponentLink2URL: http://www.onsemi.com/pub_link/Collateral/NTMD6N04R2-D.PDF; ComponentLink3Description: Package Specification; ComponentLink3URL: http://www.onsemi.com/pub_link/Collateral/751-07.PDF
footprint ONSC-SOIC-8-751-07_V (SOIC, 8-Leads, Body 4.9x3.9mm, Pitch 1.27mm)
part A pins: 1 S1, 2 G1, 7 D1, 8 D1
part B pins: 3 S2, 4 G2, 5 D2, 6 D2
part A text: 7, 8
part B text: 5, 6